# Altium schematic symbol library LED.SchLib: 5 symbols
Pins are listed as number, name and electrical type; pins without a type are passive.

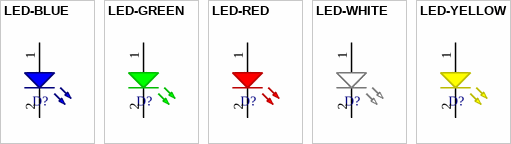
[diagram p0: symbols LED-BLUE to LED-YELLOW]

## LED-BLUE
designator D?  (value not drawn)
Drawn By: Juan I Carrano
pins: 1 A, 2 K

## LED-GREEN
designator D?  (value not drawn)
Drawn By: Juan I Carrano
pins: 1 A, 2 K

## LED-RED
designator D?  (value not drawn)
Drawn By: Juan I Carrano
pins: 1 A, 2 K

## LED-WHITE
designator D?  (value not drawn)
Drawn By: Juan I Carrano
pins: 1 A, 2 K

## LED-YELLOW
designator D?  (value not drawn)
Drawn By: Juan I Carrano
pins: 1 A, 2 K